# EAGLE library part SI9979CS-E3 (library Vishay_By_element14_Batch_1)
3-Phase Brushless DC Motor Controll
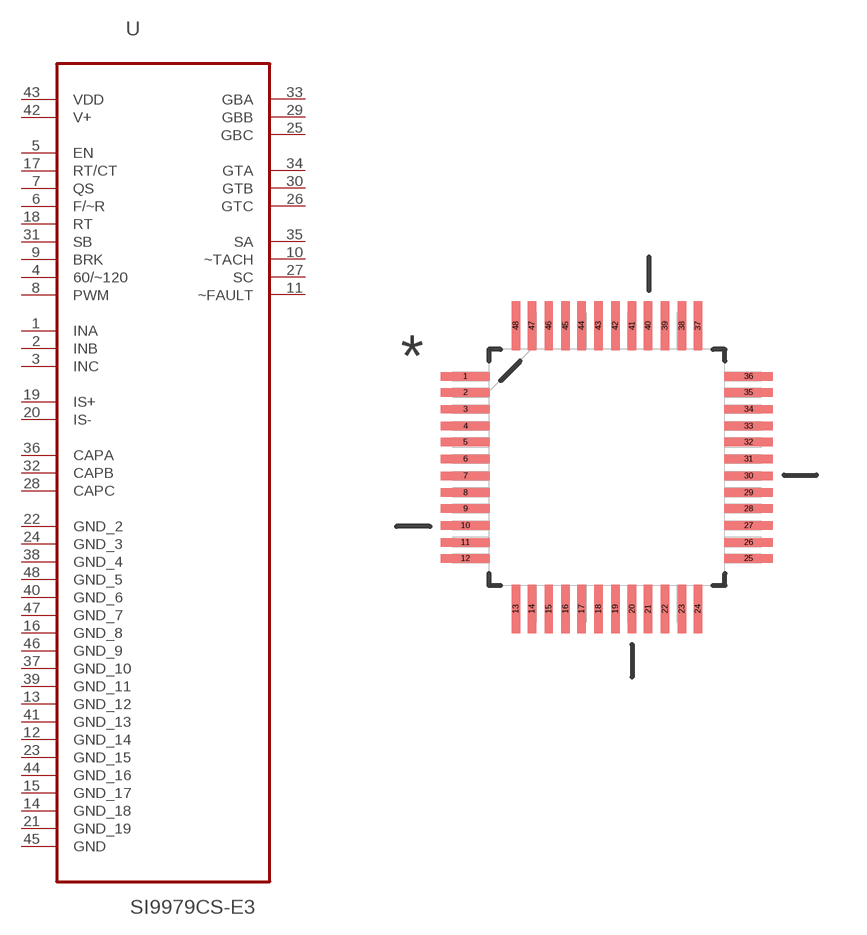
[diagram p100: symbol with the pads of QFP50P900X900X160-48N; footprint QFP50P900X900X160-48N]

Designator prefix U

## SI9979CS-E3 (MPN: SI9979CS-E3; OC_FARNELL: 1364700; OC_NEWARK: 51K7028; PACKAGE: TQFP-48; SUPPLIER: VISHAY SILICONIX)  [QFP50P900X900X160-48N]
1  INA  in
2  INB  in
3  INC  in
4  60/~120  in
5  EN  in
6  F/~R  in
7  QS  in
8  PWM  in
9  BRK  in
10  ~TACH  out
11  ~FAULT  out
12  GND_14  pas
13  GND_12  pas
14  GND_18  pas
15  GND_17  pas
16  GND_8  pas
17  RT/CT  in
18  RT  in
19  IS+  in
20  IS-  in
21  GND_19  pas
22  GND_2  pas
23  GND_15  pas
24  GND_3  pas
25  GBC  out
26  GTC  out
27  SC  out
28  CAPC  in
29  GBB  out
30  GTB  out
31  SB  in
32  CAPB  in
33  GBA  out
34  GTA  out
35  SA  out
36  CAPA  in
37  GND_10  pas
38  GND_4  pas
39  GND_11  pas
40  GND_6  pas
41  GND_13  pas
42  V+  pwr
43  VDD  pwr
44  GND_16  pas
45  GND  pas
46  GND_9  pas
47  GND_7  pas
48  GND_5  pas

## Footprint QFP50P900X900X160-48N (pad centres in mm)
smd 1.473 x 0.254: 1 -4.267,2.743; 2 -4.267,2.261; 3 -4.267,1.753; 4 -4.267,1.245; 5 -4.267,0.762; 6 -4.267,0.254; 7 -4.267,-0.254; 8 -4.267,-0.762; 9 -4.267,-1.245; 10 -4.267,-1.753; 11 -4.267,-2.261; 12 -4.267,-2.743; 25 4.267,-2.743; 26 4.267,-2.261; 27 4.267,-1.753; 28 4.267,-1.245; 29 4.267,-0.762; 30 4.267,-0.254; 31 4.267,0.254; 32 4.267,0.762; 33 4.267,1.245; 34 4.267,1.753; 35 4.267,2.261; 36 4.267,2.743
smd 0.254 x 1.473: 13 -2.743,-4.267; 14 -2.261,-4.267; 15 -1.753,-4.267; 16 -1.245,-4.267; 17 -0.762,-4.267; 18 -0.254,-4.267; 19 0.254,-4.267; 20 0.762,-4.267; 21 1.245,-4.267; 22 1.753,-4.267; 23 2.261,-4.267; 24 2.743,-4.267; 37 2.743,4.267; 38 2.261,4.267; 39 1.753,4.267; 40 1.245,4.267; 41 0.762,4.267; 42 0.254,4.267; 43 -0.254,4.267; 44 -0.762,4.267; 45 -1.245,4.267; 46 -1.753,4.267; 47 -2.261,4.267; 48 -2.743,4.267